# Altium footprint library MTGHOLE-156_P.PcbLib: 1 footprints
Each footprint in its own frame and in the unit in brackets; x right, y up, seen from the top. Pads: shape width x height; smd on the part's side, far side on the other; paste and mask are expansions set on the pad; w line width, h text height; cw(c..) or ccw(c..) is an arc to the next point about the centre after c.
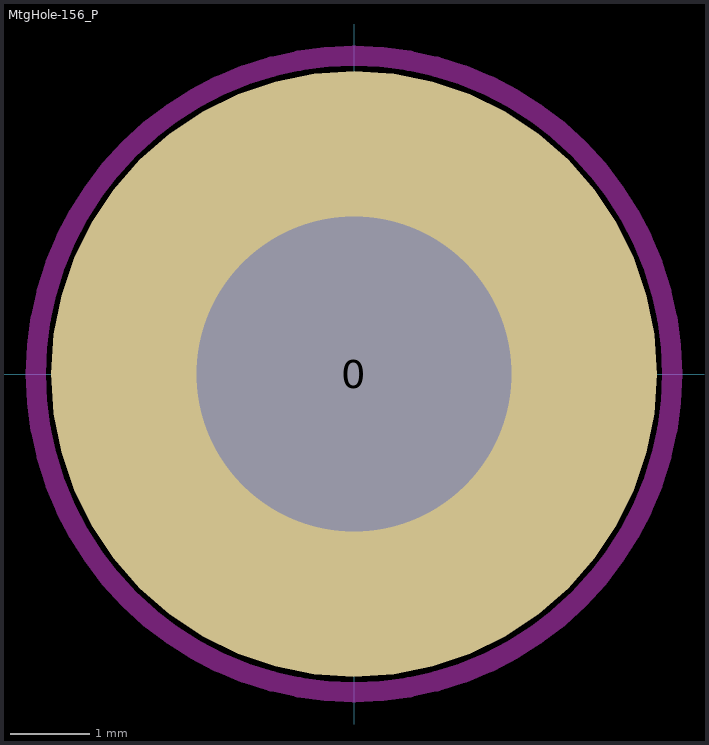
[diagram p0: the footprint, top view; thin cyan lines are the x and y axes]

## MtgHole-156_P [mil] "Mounting Hole .156\" plated"
height 500
pads (1):
  round 300 hole 156 unplated mask+5: 0(0,0)
Keep-Out Layer:
  circle w10: c0,0 r157.48